# EAGLE library part IC_SRAM_CY7C1041_4M_512K (library mylib_20130829)
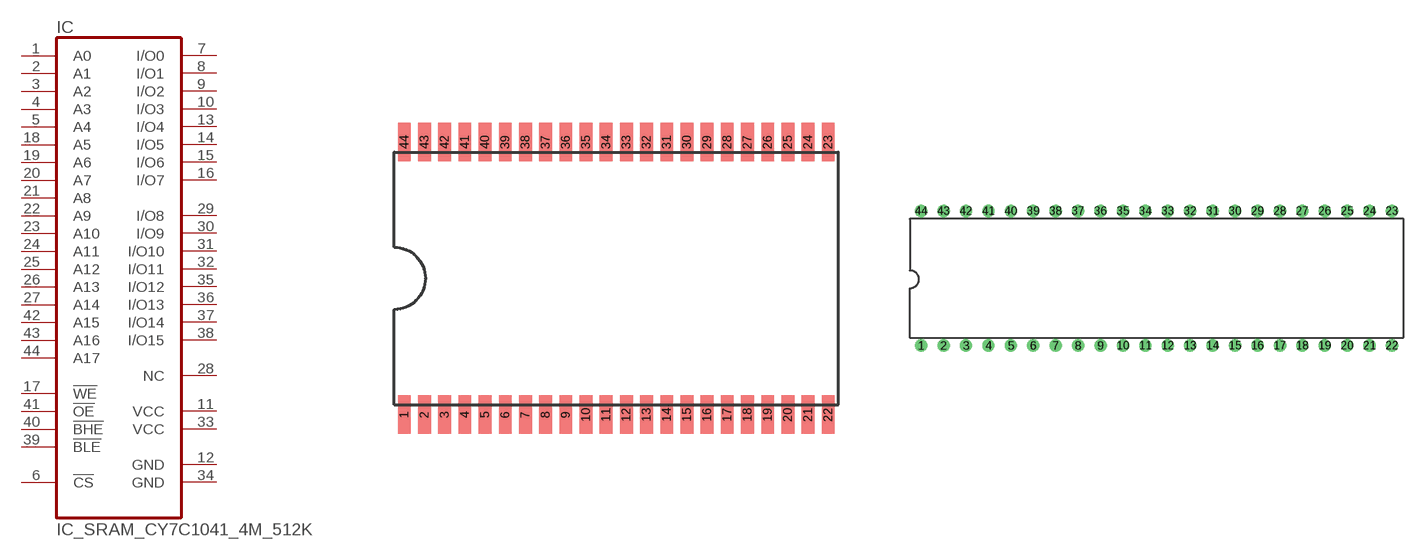
[diagram p77: symbol with the pads of IC_44_0.8_470MIL; footprints IC_44_0.8_470MIL, IC_SOCKET_DIL_44_600MIL]

Designator prefix IC

## IC_SRAM_CY7C1041_4M_512K_FLAT  [IC_44_0.8_470MIL]
1  A0  in
2  A1  in
3  A2  in
4  A3  in
5  A4  in
6  !CS!  in
7  I/O0
8  I/O1
9  I/O2
10  I/O3
11  VCC  pwr
12  GND  pwr
13  I/O4
14  I/O5
15  I/O6
16  I/O7
17  !WE  in
18  A5  in
19  A6  in
20  A7  in
21  A8  in
22  A9  in
23  A10  in
24  A11  in
25  A12  in
26  A13  in
27  A14  in
28  NC  nc
29  I/O8
30  I/O9
31  I/O10
32  I/O11
33  VCC  pwr
34  GND  pwr
35  I/O12
36  I/O13
37  I/O14
38  I/O15
39  !BLE!  in
40  !BHE!  in
41  !OE  in
42  A15  in
43  A16  in
44  A17  in

## IC_SRAM_CY7C1041_4M_512K_DIP  [IC_SOCKET_DIL_44_600MIL]
Pads as for IC_44_0.8_470MIL

## IC_SRAM_CY7C1041_4M_512K_HENKAN  [BOARD_HENKAN_WDIP44]
Pads as for IC_44_0.8_470MIL

## Footprint IC_44_0.8_470MIL (pad centres in mm)
smd 0.508 x 1.524: 1 -8.4,-5.4; 2 -7.6,-5.4; 3 -6.8,-5.4; 4 -6,-5.4; 5 -5.2,-5.4; 6 -4.4,-5.4; 7 -3.6,-5.4; 8 -2.8,-5.4; 9 -2,-5.4; 10 -1.2,-5.4; 11 -0.4,-5.4; 12 0.4,-5.4; 13 1.2,-5.4; 14 2,-5.4; 15 2.8,-5.4; 16 3.6,-5.4; 17 4.4,-5.4; 18 5.2,-5.4; 19 6,-5.4; 20 6.8,-5.4; 21 7.6,-5.4; 22 8.4,-5.4; 23 8.4,5.4; 24 7.6,5.4; 25 6.8,5.4; 26 6,5.4; 27 5.2,5.4; 28 4.4,5.4; 29 3.6,5.4; 30 2.8,5.4; 31 2,5.4; 32 1.2,5.4; 33 0.4,5.4; 34 -0.4,5.4; 35 -1.2,5.4; 36 -2,5.4; 37 -2.8,5.4; 38 -3.6,5.4; 39 -4.4,5.4; 40 -5.2,5.4; 41 -6,5.4; 42 -6.8,5.4; 43 -7.6,5.4; 44 -8.4,5.4

## Footprint IC_SOCKET_DIL_44_600MIL (pad centres in mm)
drill 0.889: 1 -26.67,-7.62; 2 -24.13,-7.62; 3 -21.59,-7.62; 4 -19.05,-7.62; 5 -16.51,-7.62; 6 -13.97,-7.62; 7 -11.43,-7.62; 8 -8.89,-7.62; 9 -6.35,-7.62; 10 -3.81,-7.62; 11 -1.27,-7.62; 12 1.27,-7.62; 13 3.81,-7.62; 14 6.35,-7.62; 15 8.89,-7.62; 16 11.43,-7.62; 17 13.97,-7.62; 18 16.51,-7.62; 19 19.05,-7.62; 20 21.59,-7.62; 21 24.13,-7.62; 22 26.67,-7.62; 23 26.67,7.62; 24 24.13,7.62; 25 21.59,7.62; 26 19.05,7.62; 27 16.51,7.62; 28 13.97,7.62; 29 11.43,7.62; 30 8.89,7.62; 31 6.35,7.62; 32 3.81,7.62; 33 1.27,7.62; 34 -1.27,7.62; 35 -3.81,7.62; 36 -6.35,7.62; 37 -8.89,7.62; 38 -11.43,7.62; 39 -13.97,7.62; 40 -16.51,7.62; 41 -19.05,7.62; 42 -21.59,7.62; 43 -24.13,7.62; 44 -26.67,7.62

## Footprint BOARD_HENKAN_WDIP44 (pad centres in mm)
drill 0.889: 1 -22.86,12.7; 2 -20.32,12.7; 3 -22.86,10.16; 4 -20.32,10.16; 5 -22.86,7.62; 6 -20.32,7.62; 7 -22.86,5.08; 8 -20.32,5.08; 9 -22.86,2.54; 10 -20.32,2.54; 11 -22.86,0; 12 -20.32,0; 13 -22.86,-2.54; 14 -20.32,-2.54; 15 -22.86,-5.08; 16 -20.32,-5.08; 17 -22.86,-7.62; 18 -20.32,-7.62; 19 -22.86,-10.16; 20 -20.32,-10.16; 21 -22.86,-12.7; 22 -20.32,-12.7; 23 22.86,-12.7; 24 20.32,-12.7; 25 22.86,-10.16; 26 20.32,-10.16; 27 22.86,-7.62; 28 20.32,-7.62; 29 22.86,-5.08; 30 20.32,-5.08; 31 22.86,-2.54; 32 20.32,-2.54; 33 22.86,0; 34 20.32,0; 35 22.86,2.54; 36 20.32,2.54; 37 22.86,5.08; 38 20.32,5.08; 39 22.86,7.62; 40 20.32,7.62; 41 22.86,10.16; 42 20.32,10.16; 43 22.86,12.7; 44 20.32,12.7